# EAGLE library part SM_1223_DI-16X24VDC_DO-16XRELAIS (library e-sps)
SM1223 DI 16 x 24 VDC, DO 16 x Relais Source: s71200_easy_book_de-DE_de-DE.pdf
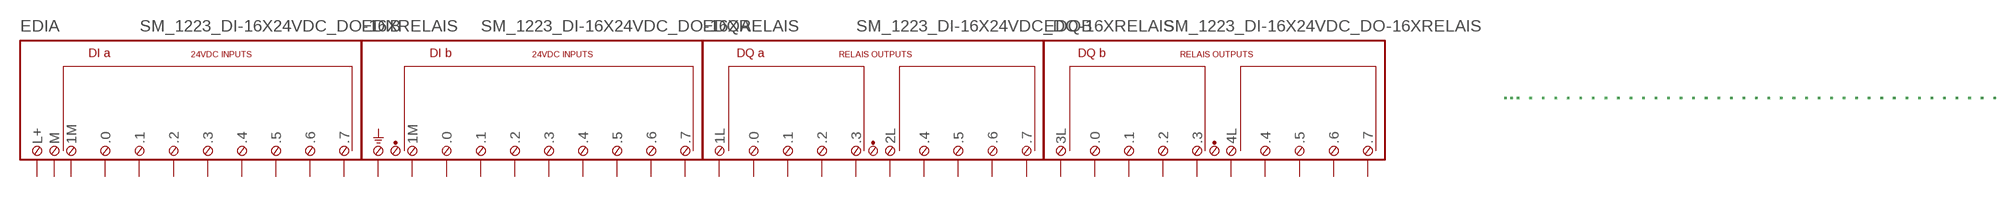
[diagram p10: symbol with the pads of SM_1223_DI-16X24VDC_DO-16XRELAIS; footprint SM_1223_DI-16X24VDC_DO-16XRELAIS]

Designator prefix E; gates DIA=SM_1223_DI_16X24VDC-1 DIB=SM_1223_DI_16X24VDC-2 DQA=SM_1223_DO_16XRELAIS-1 DQB=SM_1223_DO_16XRELAIS-2

## SM_1223_DI-16X24VDC_DO-16XRELAIS  [SM_1223_DI-16X24VDC_DO-16XRELAIS]
1  DIA:.0  pas
2  DIA:.1  pas
3  DIA:.2  pas
4  DIA:.3  pas
5  DIA:.4  pas
6  DIA:.5  pas
7  DIA:.6  pas
8  DIA:.7  pas
9  DIA:1M  pas
10  DIA:L+  pas
11  DIA:M  pas
12  DIB:.0  pas
13  DIB:.1  pas
14  DIB:.2  pas
15  DIB:.3  pas
16  DIB:.4  pas
17  DIB:.5  pas
18  DIB:.6  pas
19  DIB:.7  pas
20  DIB:1M  pas
21  DIB:PE  pas
22  DQA:.0  pas
23  DQA:.1  pas
24  DQA:.2  pas
25  DQA:.3  pas
26  DQA:.4  pas
27  DQA:.5  pas
28  DQA:.6  pas
29  DQA:.7  pas
30  DQA:1L  pas
31  DQA:2L  pas
32  DQB:.0  pas
33  DQB:.1  pas
34  DQB:.2  pas
35  DQB:.3  pas
36  DQB:.4  pas
37  DQB:.5  pas
38  DQB:.6  pas
39  DQB:.7  pas
40  DQB:3L  pas
41  DQB:4L  pas

## Footprint SM_1223_DI-16X24VDC_DO-16XRELAIS (pad centres in mm)
Dummy
drill 0.5 pad 1 square: 1 -88.9,-20.32; 2 -83.82,-20.32; 3 -78.74,-20.32; 4 -73.66,-20.32; 5 -68.58,-20.32; 6 -63.5,-20.32; 7 -58.42,-20.32; 8 -53.34,-20.32; 9 -93.98,-20.32; 10 -99.06,-20.32; 11 -96.52,-20.32; 12 -38.1,-20.32; 13 -33.02,-20.32; 14 -27.94,-20.32; 15 -22.86,-20.32; 16 -17.78,-20.32; 17 -12.7,-20.32; 18 -7.62,-20.32; 19 -2.54,-20.32; 20 -43.18,-20.32; 21 -48.26,-20.32; 22 7.62,-20.32; 23 12.7,-20.32; 24 17.78,-20.32; 25 22.86,-20.32; 26 33.02,-20.32; 27 38.1,-20.32; 28 43.18,-20.32; 29 48.26,-20.32; 30 2.54,-20.32; 31 27.94,-20.32; 32 58.42,-20.32; 33 63.5,-20.32; 34 68.58,-20.32; 35 73.66,-20.32; 36 83.82,-20.32; 37 88.9,-20.32; 38 93.98,-20.32; 39 99.06,-20.32; 40 53.34,-20.32; 41 78.74,-20.32